# Altium schematic symbol library 3296W-1-102LF.SchLib: 1 symbol
Pins are listed as number, name and electrical type; pins without a type are passive.

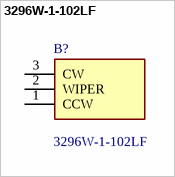
[diagram p0: symbol 3296W-1-102LF]

## 3296W-1-102LF
designator B?
Trimmer Resistors - Through Hole 3/8" 1Kohms Sealed Vertical Adjust; Manufacturer_Name: Bourns; Allied_Number: 70153917; Geometry.Height: 11.8mm; RS Part Number: 5219631; RS Price/Stock: http://uk.rs-online.com/web/p/products/5219631; Manufacturer_Part_Number: 3296W-1-102LF; Datasheet Link: http://uk.rs-online.com/web/p/products/5219631
footprint 3296W1102LF
pins: 1 CCW, 2 WIPER, 3 CW